# EAGLE library part 68HC34 (library micro-motorola)
MICROCONTROLLER/MEMORY DEVICE
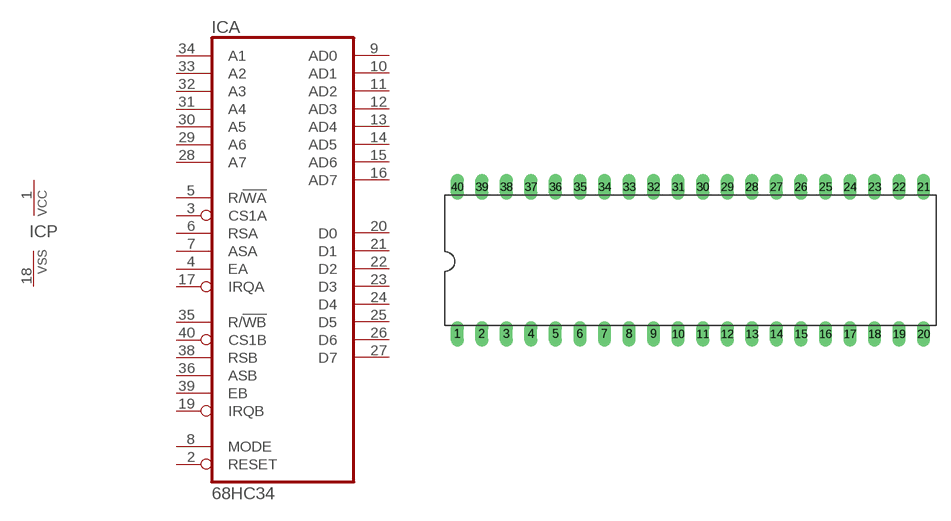
[diagram p9: symbol with the pads of DIL40; footprint DIL40]

Designator prefix IC; gates A=68HC34 P=PWRVSS

## 68HC34 (OC_FARNELL: unknown; OC_NEWARK: unknown)  [DIL40]
1  P:VCC  pwr
2  A:RESET  in
3  A:CS1A  in
4  A:EA  in
5  A:R/!WA  in
6  A:RSA  in
7  A:ASA  in
8  A:MODE  in
9  A:AD0
10  A:AD1
11  A:AD2
12  A:AD3
13  A:AD4
14  A:AD5
15  A:AD6
16  A:AD7
17  A:IRQA  in
18  P:VSS  pwr
19  A:IRQB  in
20  A:D0
21  A:D1
22  A:D2
23  A:D3
24  A:D4
25  A:D5
26  A:D6
27  A:D7
28  A:A7  in
29  A:A6  in
30  A:A5  in
31  A:A4  in
32  A:A3  in
33  A:A2  in
34  A:A1  in
35  A:R/!WB  in
36  A:ASB  in
38  A:RSB  in
39  A:EB  in
40  A:CS1B  in

## Footprint DIL40 (pad centres in mm)
Dual In Line Package
drill 0.813 long: 1 -24.13,-7.62; 2 -21.59,-7.62; 3 -19.05,-7.62; 4 -16.51,-7.62; 5 -13.97,-7.62; 6 -11.43,-7.62; 7 -8.89,-7.62; 8 -6.35,-7.62; 9 -3.81,-7.62; 10 -1.27,-7.62; 11 1.27,-7.62; 12 3.81,-7.62; 13 6.35,-7.62; 14 8.89,-7.62; 15 11.43,-7.62; 16 13.97,-7.62; 17 16.51,-7.62; 18 19.05,-7.62; 19 21.59,-7.62; 20 24.13,-7.62; 21 24.13,7.62; 22 21.59,7.62; 23 19.05,7.62; 24 16.51,7.62; 25 13.97,7.62; 26 11.43,7.62; 27 8.89,7.62; 28 6.35,7.62; 29 3.81,7.62; 30 1.27,7.62; 31 -1.27,7.62; 32 -3.81,7.62; 33 -6.35,7.62; 34 -8.89,7.62; 35 -11.43,7.62; 36 -13.97,7.62; 37 -16.51,7.62; 38 -19.05,7.62; 39 -21.59,7.62; 40 -24.13,7.62